# Altium footprint library WE WR_COM 629722000214.PcbLib: 1 footprints
Each footprint in its own frame and in the unit in brackets; x right, y up, seen from the top. Pads: shape width x height; smd on the part's side, far side on the other; paste and mask are expansions set on the pad; w line width, h text height; cw(c..) or ccw(c..) is an arc to the next point about the centre after c.
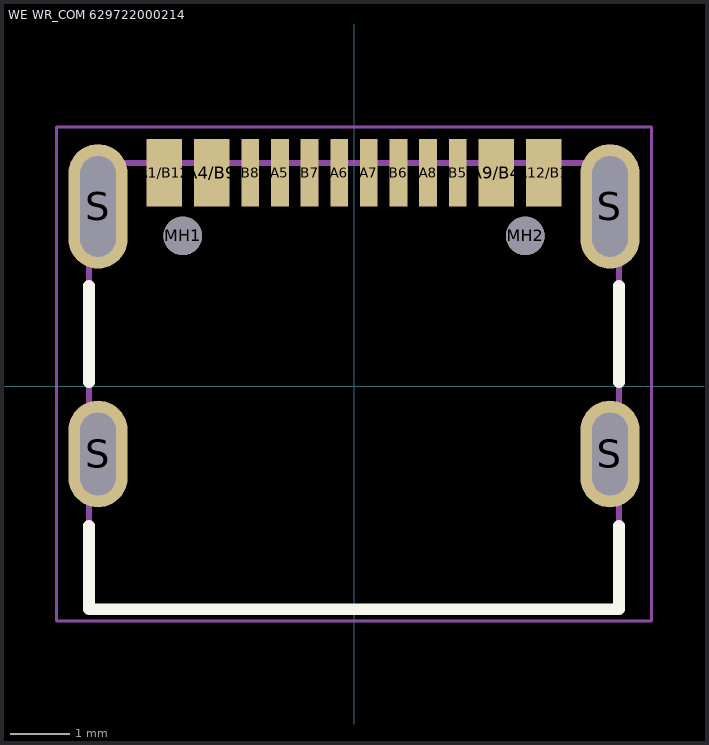
[diagram p0: the footprint, top view; thin cyan lines are the x and y axes]

## WE WR_COM 629722000214 [mm] "USB TYPE C VERTICAL PLUG"
height 3.31
pads (18):
  rect 0.6x1.14 smd: A1/B12(-3.2,3.605) A4/B9(-2.4,3.605) A9/B4(2.4,3.605) A12/B1(3.2,3.605)
  rect 0.3x1.14 smd: A5(-1.25,3.605) A6(-0.25,3.605) A7(0.25,3.605) A8(1.25,3.605) B5(1.75,3.605) B6(0.75,3.605) B7(-0.75,3.605) B8(-1.75,3.605)
  round 0.65 hole 0.65 unplated: MH1(-2.89,2.535) MH2(2.89,2.535)
  oval 1x1.8 hole 0.6 slot 1.4 at 90 deg: S(-4.32,-1.145) S(4.32,-1.145)
  oval 1x2.1 hole 0.6 slot 1.7 at 90 deg: S(-4.32,3.035) S(4.32,3.035)
Top Overlay:
  lines w0.2: -4.47,-2.355 -4.47,-3.765 4.47,-3.765 4.47,-2.355 ; -4.47,0.065 -4.47,1.695 ; 4.47,0.065 4.47,1.695
Top 3D Body:
  lines w0.1: -4.47,-3.765 4.47,-3.765 4.47,3.765 -4.47,3.765 -4.47,-3.765
Top Courtyard:
  lines w0.05: -5.02,-3.965 -5.02,4.375 5.02,4.375 5.02,-3.965 -5.02,-3.965
Top Designator:
  text ".Designator" at -7.498,-0.5 h1.5
3D body "629722000214.stp": height 3.33, standoff -0.83, extent -4.79,-3.765 4.79,3.945